# Altium integrated library WE-PD2_rev15a.intlib: 122 symbols (part 2 of 2)
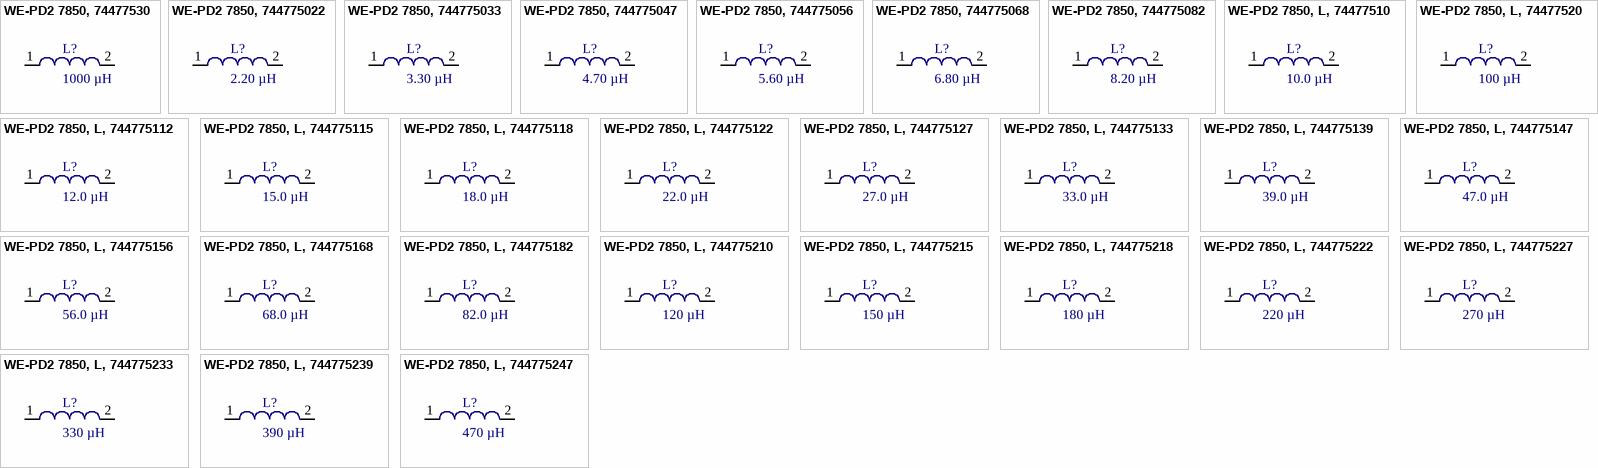
[diagram p5: symbols WE-PD2 7850, 74477530 to WE-PD2 7850, L, 744775247]

## WE-PD2 7850, 744775033
designator L?, comment 3.30 µH
SMD Power Inductor WE-PD2, L=3.30 µH; partNo: 744775033; Manufacturer: Würth Elektronik eiSos GmbH; Inductance: 3.30 µH; ComponentLink1Description: Manufacturer; ComponentLink1URL: http://www.we-online.de; Created by: Christin Otto; Created Date: March 2013; ComponentLink2Description: Datasheet; ComponentLink2URL: http://www.we-online.de/katalog/media/pdf/744775033.pdf
footprint WE-PD2_7850 (SMD Inductor, 2-Leads, Body 7,8x7,0mm)
pins: 1, 2

## WE-PD2 7850, 744775047
designator L?, comment 4.70 µH
SMD Power Inductor WE-PD2, L=4.70 µH; partNo: 744775047; Manufacturer: Würth Elektronik eiSos GmbH; Inductance: 4.70 µH; ComponentLink1Description: Manufacturer; ComponentLink1URL: http://www.we-online.de; Created by: Christin Otto; Created Date: March 2013; ComponentLink2Description: Datasheet; ComponentLink2URL: http://www.we-online.de/katalog/media/pdf/744775047.pdf
footprint WE-PD2_7850 (SMD Inductor, 2-Leads, Body 7,8x7,0mm)
pins: 1, 2

## WE-PD2 7850, 744775056
designator L?, comment 5.60 µH
SMD Power Inductor WE-PD2, L=5.60 µH; partNo: 744775056; Manufacturer: Würth Elektronik eiSos GmbH; Inductance: 5.60 µH; ComponentLink1Description: Manufacturer; ComponentLink1URL: http://www.we-online.de; Created by: Christin Otto; Created Date: March 2013; ComponentLink2Description: Datasheet; ComponentLink2URL: http://www.we-online.de/katalog/media/pdf/744775056.pdf
footprint WE-PD2_7850 (SMD Inductor, 2-Leads, Body 7,8x7,0mm)
pins: 1, 2

## WE-PD2 7850, 744775068
designator L?, comment 6.80 µH
SMD Power Inductor WE-PD2, L=6.80 µH; partNo: 744775068; Manufacturer: Würth Elektronik eiSos GmbH; Inductance: 6.80 µH; ComponentLink1Description: Manufacturer; ComponentLink1URL: http://www.we-online.de; Created by: Christin Otto; Created Date: March 2013; ComponentLink2Description: Datasheet; ComponentLink2URL: http://www.we-online.de/katalog/media/pdf/744775068.pdf
footprint WE-PD2_7850 (SMD Inductor, 2-Leads, Body 7,8x7,0mm)
pins: 1, 2

## WE-PD2 7850, 744775082
designator L?, comment 8.20 µH
SMD Power Inductor WE-PD2, L=8.20 µH; partNo: 744775082; Manufacturer: Würth Elektronik eiSos GmbH; Inductance: 8.20 µH; ComponentLink1Description: Manufacturer; ComponentLink1URL: http://www.we-online.de; Created by: Christin Otto; Created Date: March 2013; ComponentLink2Description: Datasheet; ComponentLink2URL: http://www.we-online.de/katalog/media/pdf/744775082.pdf
footprint WE-PD2_7850 (SMD Inductor, 2-Leads, Body 7,8x7,0mm)
pins: 1, 2

## WE-PD2 7850, L, 74477510
designator L?, comment 10.0 µH
SMD Power Inductor WE-PD2, L=10.0 µH; partNo: 74477510; Manufacturer: Würth Elektronik eiSos GmbH; Inductance: 10.0 µH; ComponentLink1Description: Manufacturer; ComponentLink1URL: http://www.we-online.de; Created by: Christin Zierenner; Created Date: August 2009; ComponentLink2Description: Datasheet; ComponentLink2URL: http://www.we-online.de/katalog/media/pdf/74477510.pdf
footprint WE-PD2_7850 (SMD Inductor, 2-Leads, Body 7,8x7,0mm)
pins: 1, 2

## WE-PD2 7850, L, 74477520
designator L?, comment 100 µH
SMD Power Inductor WE-PD2, L=100 µH; partNo: 74477520; Manufacturer: Würth Elektronik eiSos GmbH; Inductance: 100 µH; ComponentLink1Description: Manufacturer; ComponentLink1URL: http://www.we-online.de; Created by: Christin Zierenner; Created Date: August 2009; ComponentLink2Description: Datasheet; ComponentLink2URL: http://www.we-online.de/katalog/media/pdf/74477520.pdf
footprint WE-PD2_7850 (SMD Inductor, 2-Leads, Body 7,8x7,0mm)
pins: 1, 2

## WE-PD2 7850, L, 744775112
designator L?, comment 12.0 µH
SMD Power Inductor WE-PD2, L=12.0 µH; partNo: 744775112; Manufacturer: Würth Elektronik eiSos GmbH; Inductance: 12.0 µH; ComponentLink1Description: Manufacturer; ComponentLink1URL: http://www.we-online.de; Created by: Christin Zierenner; Created Date: August 2009; ComponentLink2Description: Datasheet; ComponentLink2URL: http://www.we-online.de/katalog/media/pdf/744775112.pdf
footprint WE-PD2_7850 (SMD Inductor, 2-Leads, Body 7,8x7,0mm)
pins: 1, 2

## WE-PD2 7850, L, 744775115
designator L?, comment 15.0 µH
SMD Power Inductor WE-PD2, L=15.0 µH; partNo: 744775115; Manufacturer: Würth Elektronik eiSos GmbH; Inductance: 15.0 µH; ComponentLink1Description: Manufacturer; ComponentLink1URL: http://www.we-online.de; Created by: Christin Zierenner; Created Date: August 2009; ComponentLink2Description: Datasheet; ComponentLink2URL: http://www.we-online.de/katalog/media/pdf/744775115.pdf
footprint WE-PD2_7850 (SMD Inductor, 2-Leads, Body 7,8x7,0mm)
pins: 1, 2

## WE-PD2 7850, L, 744775118
designator L?, comment 18.0 µH
SMD Power Inductor WE-PD2, L=18.0 µH; partNo: 744775118; Manufacturer: Würth Elektronik eiSos GmbH; Inductance: 18.0 µH; ComponentLink1Description: Manufacturer; ComponentLink1URL: http://www.we-online.de; Created by: Christin Zierenner; Created Date: August 2009; ComponentLink2Description: Datasheet; ComponentLink2URL: http://www.we-online.de/katalog/media/pdf/744775118.pdf
footprint WE-PD2_7850 (SMD Inductor, 2-Leads, Body 7,8x7,0mm)
pins: 1, 2

## WE-PD2 7850, L, 744775122
designator L?, comment 22.0 µH
SMD Power Inductor WE-PD2, L=22.0 µH; partNo: 744775122; Manufacturer: Würth Elektronik eiSos GmbH; Inductance: 22.0 µH; ComponentLink1Description: Manufacturer; ComponentLink1URL: http://www.we-online.de; Created by: Christin Zierenner; Created Date: August 2009; ComponentLink2Description: Datasheet; ComponentLink2URL: http://www.we-online.de/katalog/media/pdf/744775122.pdf
footprint WE-PD2_7850 (SMD Inductor, 2-Leads, Body 7,8x7,0mm)
pins: 1, 2

## WE-PD2 7850, L, 744775127
designator L?, comment 27.0 µH
SMD Power Inductor WE-PD2, L=27.0 µH; partNo: 744775127; Manufacturer: Würth Elektronik eiSos GmbH; Inductance: 27.0 µH; ComponentLink1Description: Manufacturer; ComponentLink1URL: http://www.we-online.de; Created by: Christin Zierenner; Created Date: August 2009; ComponentLink2Description: Datasheet; ComponentLink2URL: http://www.we-online.de/katalog/media/pdf/744775127.pdf
footprint WE-PD2_7850 (SMD Inductor, 2-Leads, Body 7,8x7,0mm)
pins: 1, 2

## WE-PD2 7850, L, 744775133
designator L?, comment 33.0 µH
SMD Power Inductor WE-PD2, L=33.0 µH; partNo: 744775133; Manufacturer: Würth Elektronik eiSos GmbH; Inductance: 33.0 µH; ComponentLink1Description: Manufacturer; ComponentLink1URL: http://www.we-online.de; Created by: Christin Zierenner; Created Date: August 2009; ComponentLink2Description: Datasheet; ComponentLink2URL: http://www.we-online.de/katalog/media/pdf/744775133.pdf
footprint WE-PD2_7850 (SMD Inductor, 2-Leads, Body 7,8x7,0mm)
pins: 1, 2

## WE-PD2 7850, L, 744775139
designator L?, comment 39.0 µH
SMD Power Inductor WE-PD2, L=39.0 µH; partNo: 744775139; Manufacturer: Würth Elektronik eiSos GmbH; Inductance: 39.0 µH; ComponentLink1Description: Manufacturer; ComponentLink1URL: http://www.we-online.de; Created by: Christin Zierenner; Created Date: August 2009; ComponentLink2Description: Datasheet; ComponentLink2URL: http://www.we-online.de/katalog/media/pdf/744775139.pdf
footprint WE-PD2_7850 (SMD Inductor, 2-Leads, Body 7,8x7,0mm)
pins: 1, 2

## WE-PD2 7850, L, 744775147
designator L?, comment 47.0 µH
SMD Power Inductor WE-PD2, L=47.0 µH; partNo: 744775147; Manufacturer: Würth Elektronik eiSos GmbH; Inductance: 47.0 µH; ComponentLink1Description: Manufacturer; ComponentLink1URL: http://www.we-online.de; Created by: Christin Zierenner; Created Date: August 2009; ComponentLink2Description: Datasheet; ComponentLink2URL: http://www.we-online.de/katalog/media/pdf/744775147.pdf
footprint WE-PD2_7850 (SMD Inductor, 2-Leads, Body 7,8x7,0mm)
pins: 1, 2

## WE-PD2 7850, L, 744775156
designator L?, comment 56.0 µH
SMD Power Inductor WE-PD2, L=56.0 µH; partNo: 744775156; Manufacturer: Würth Elektronik eiSos GmbH; Inductance: 56.0 µH; ComponentLink1Description: Manufacturer; ComponentLink1URL: http://www.we-online.de; Created by: Christin Zierenner; Created Date: August 2009; ComponentLink2Description: Datasheet; ComponentLink2URL: http://www.we-online.de/katalog/media/pdf/744775156.pdf
footprint WE-PD2_7850 (SMD Inductor, 2-Leads, Body 7,8x7,0mm)
pins: 1, 2

## WE-PD2 7850, L, 744775168
designator L?, comment 68.0 µH
SMD Power Inductor WE-PD2, L=68.0 µH; partNo: 744775168; Manufacturer: Würth Elektronik eiSos GmbH; Inductance: 68.0 µH; ComponentLink1Description: Manufacturer; ComponentLink1URL: http://www.we-online.de; Created by: Christin Zierenner; Created Date: August 2009; ComponentLink2Description: Datasheet; ComponentLink2URL: http://www.we-online.de/katalog/media/pdf/744775168.pdf
footprint WE-PD2_7850 (SMD Inductor, 2-Leads, Body 7,8x7,0mm)
pins: 1, 2

## WE-PD2 7850, L, 744775182
designator L?, comment 82.0 µH
SMD Power Inductor WE-PD2, L=82.0 µH; partNo: 744775182; Manufacturer: Würth Elektronik eiSos GmbH; Inductance: 82.0 µH; ComponentLink1Description: Manufacturer; ComponentLink1URL: http://www.we-online.de; Created by: Christin Zierenner; Created Date: August 2009; ComponentLink2Description: Datasheet; ComponentLink2URL: http://www.we-online.de/katalog/media/pdf/744775182.pdf
footprint WE-PD2_7850 (SMD Inductor, 2-Leads, Body 7,8x7,0mm)
pins: 1, 2

## WE-PD2 7850, L, 744775210
designator L?, comment 120 µH
SMD Power Inductor WE-PD2, L=120 µH; partNo: 744775210; Manufacturer: Würth Elektronik eiSos GmbH; Inductance: 120 µH; ComponentLink1Description: Manufacturer; ComponentLink1URL: http://www.we-online.de; Created by: Christin Zierenner; Created Date: August 2009; ComponentLink2Description: Datasheet; ComponentLink2URL: http://www.we-online.de/katalog/media/pdf/744775210.pdf
footprint WE-PD2_7850 (SMD Inductor, 2-Leads, Body 7,8x7,0mm)
pins: 1, 2

## WE-PD2 7850, L, 744775215
designator L?, comment 150 µH
SMD Power Inductor WE-PD2, L=150 µH; partNo: 744775215; Manufacturer: Würth Elektronik eiSos GmbH; Inductance: 150 µH; ComponentLink1Description: Manufacturer; ComponentLink1URL: http://www.we-online.de; Created by: Christin Zierenner; Created Date: August 2009; ComponentLink2Description: Datasheet; ComponentLink2URL: http://www.we-online.de/katalog/media/pdf/744775215.pdf
footprint WE-PD2_7850 (SMD Inductor, 2-Leads, Body 7,8x7,0mm)
pins: 1, 2

## WE-PD2 7850, L, 744775218
designator L?, comment 180 µH
SMD Power Inductor WE-PD2, L=180 µH; partNo: 744775218; Manufacturer: Würth Elektronik eiSos GmbH; Inductance: 180 µH; ComponentLink1Description: Manufacturer; ComponentLink1URL: http://www.we-online.de; Created by: Christin Zierenner; Created Date: August 2009; ComponentLink2Description: Datasheet; ComponentLink2URL: http://www.we-online.de/katalog/media/pdf/744775218.pdf
footprint WE-PD2_7850 (SMD Inductor, 2-Leads, Body 7,8x7,0mm)
pins: 1, 2

## WE-PD2 7850, L, 744775222
designator L?, comment 220 µH
SMD Power Inductor WE-PD2, L=220 µH; partNo: 744775222; Manufacturer: Würth Elektronik eiSos GmbH; Inductance: 220 µH; ComponentLink1Description: Manufacturer; ComponentLink1URL: http://www.we-online.de; Created by: Christin Zierenner; Created Date: August 2009; ComponentLink2Description: Datasheet; ComponentLink2URL: http://www.we-online.de/katalog/media/pdf/744775222.pdf
footprint WE-PD2_7850 (SMD Inductor, 2-Leads, Body 7,8x7,0mm)
pins: 1, 2

## WE-PD2 7850, L, 744775227
designator L?, comment 270 µH
SMD Power Inductor WE-PD2, L=270 µH; partNo: 744775227; Manufacturer: Würth Elektronik eiSos GmbH; Inductance: 270 µH; ComponentLink1Description: Manufacturer; ComponentLink1URL: http://www.we-online.de; Created by: Christin Zierenner; Created Date: August 2009; ComponentLink2Description: Datasheet; ComponentLink2URL: http://www.we-online.de/katalog/media/pdf/744775227.pdf
footprint WE-PD2_7850 (SMD Inductor, 2-Leads, Body 7,8x7,0mm)
pins: 1, 2

## WE-PD2 7850, L, 744775233
designator L?, comment 330 µH
SMD Power Inductor WE-PD2, L=330 µH; partNo: 744775233; Manufacturer: Würth Elektronik eiSos GmbH; Inductance: 330 µH; ComponentLink1Description: Manufacturer; ComponentLink1URL: http://www.we-online.de; Created by: Christin Zierenner; Created Date: August 2009; ComponentLink2Description: Datasheet; ComponentLink2URL: http://www.we-online.de/katalog/media/pdf/744775233.pdf
footprint WE-PD2_7850 (SMD Inductor, 2-Leads, Body 7,8x7,0mm)
pins: 1, 2

## WE-PD2 7850, L, 744775239
designator L?, comment 390 µH
SMD Power Inductor WE-PD2, L=390 µH; partNo: 744775239; Manufacturer: Würth Elektronik eiSos GmbH; Inductance: 390 µH; ComponentLink1Description: Manufacturer; ComponentLink1URL: http://www.we-online.de; Created by: Christin Zierenner; Created Date: August 2009; ComponentLink2Description: Datasheet; ComponentLink2URL: http://www.we-online.de/katalog/media/pdf/744775239.pdf
footprint WE-PD2_7850 (SMD Inductor, 2-Leads, Body 7,8x7,0mm)
pins: 1, 2

## WE-PD2 7850, L, 744775247
designator L?, comment 470 µH
SMD Power Inductor WE-PD2, L=470 µH; partNo: 744775247; Manufacturer: Würth Elektronik eiSos GmbH; Inductance: 470 µH; ComponentLink1Description: Manufacturer; ComponentLink1URL: http://www.we-online.de; Created by: Christin Zierenner; Created Date: August 2009; ComponentLink2Description: Datasheet; ComponentLink2URL: http://www.we-online.de/katalog/media/pdf/744775247.pdf
footprint WE-PD2_7850 (SMD Inductor, 2-Leads, Body 7,8x7,0mm)
pins: 1, 2